# Altium schematic symbol library Components -развязка рс.SchLib: 1 symbol
Pins are listed as number, name and electrical type; pins without a type are passive.

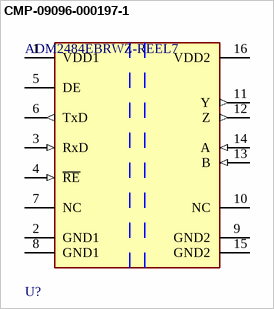
[diagram p0: symbol CMP-09096-000197-1]

## CMP-09096-000197-1
designator U?, comment ADM2484EBRWZ-REEL7
DGTL ISO 5KV RS422/RS485 16SOIC; Number of Transmitters: 1; Nominal Supply Current: 2mA; Simplex/Duplex: Full Duplex; Data Rate: 500Kbps; Min Supply Voltage: 3V; Logic Function: Transceiver; Number of Channels: 3; Isolated Power: No; Channel Type: Unidirectional; Max Supply Voltage: 5.5V; Isolation Voltage: 5kV; Number of Transceivers: 1; Number of Pins: 16; Packaging: Tape and Reel; Mount: Surface Mount; Min Operating Temperature: -40°C; Length: 10.5mm; Series: -; Package Quantity: 400; Operating Supply Voltage: 3V; Case/Package: SOIC; Supply Current: 2mA; RoHS Compliant: Yes; Max Operating Temperature: 85°C; Width: 7.6mm; Height: 2.35mm; Lead Free: Contains Lead; Number of Receivers: 1; Operating Supply Current: 2mA; Min Dual Supply Voltage: 3V
footprint FP-RW-16-IPC_B
footprint FP-RW-16-IPC_C
footprint FP-RW-16-IPC_A
pins: 1 VDD1 (power), 2 GND1 (power), 3 RxD (in), 4 ~{RE} (in), 5 DE, 6 TxD (out), 7 NC, 8 GND1 (power), 9 GND2 (power), 10 NC, 11 Y (out), 12 Z (out), 13 B (in), 14 A (in), 15 GND2 (power), 16 VDD2 (power)